# EAGLE library part TXS0108 (library bschulz)
TXS0108 - 8 Channel Bidirectional Voltage Level Translator Characteristics: Vcc: 1.65 ~ 3.6V (Port A), 2.3 ~ 5.5V (Port B) IQ: 14.4μA Output Current: 50mA Output Type: Open Drain/Push-Pull Operating Temperature: -40°C to 85°C Digikey: 296-24806-1-ND (RGY) <https://www.digikey.com/product-detail/en/texas-instruments/TXS0108ERGYR/296-24806-1-ND/2092628>
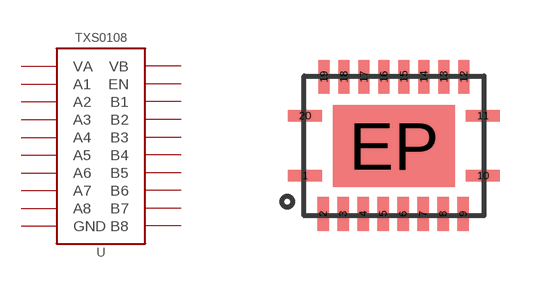
[diagram p72: symbol with the pads of RGY_S-PVQFN-N20; footprint RGY_S-PVQFN-N20]

Designator prefix U

## TXS0108RGY (DIGIKEY: 296-24806-1-ND; MF: TI; MPN: TXS0108ERGYR)  [RGY_S-PVQFN-N20]
1  A1
2  VA  pwr
3  A2
4  A3
5  A4
6  A5
7  A6
8  A7
9  A8
10  EN  in
11  GND  pwr
12  B8
13  B7
14  B6
15  B5
16  B4
17  B3
18  B2
19  VB  pwr
20  B1
EP  GND  pwr

## Footprint RGY_S-PVQFN-N20 (pad centres in mm)
smd 0.85 x 0.28: 1 -2.225,-0.75; 10 2.225,-0.75; 11 2.225,0.75; 20 -2.225,0.75
smd 0.28 x 0.85: 2 -1.77,-1.705; 3 -1.27,-1.705; 4 -0.77,-1.705; 5 -0.27,-1.705; 6 0.23,-1.705; 7 0.73,-1.705; 8 1.23,-1.705; 9 1.73,-1.705; 12 1.75,1.725; 13 1.25,1.725; 14 0.75,1.725; 15 0.25,1.725; 16 -0.25,1.725; 17 -0.75,1.725; 18 -1.25,1.725; 19 -1.75,1.725
smd 3.05 x 2.05: EP 0,0